# EAGLE library part CONN-RJ45-MOLEX-44144-003 (library SM1000)
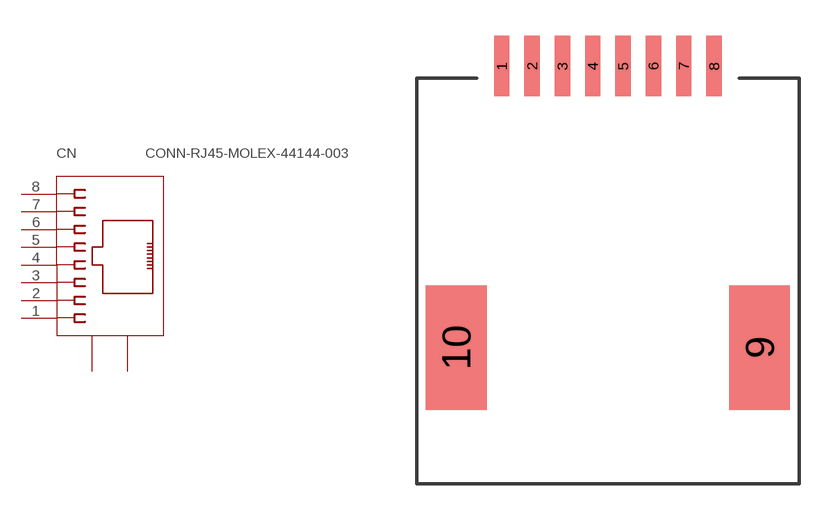
[diagram p1: symbol with the pads of CONN-RJ45-MOLEX-44144-003; footprint CONN-RJ45-MOLEX-44144-003]

Designator prefix CN

## CONN-RJ45-MOLEX-44144-003  [CONN-RJ45-MOLEX-44144-003]
1  1
2  2
3  3
4  4
5  5
6  6
7  7
8  8
9  9
10  10

## Footprint CONN-RJ45-MOLEX-44144-003 (pad centres in mm)
smd 0.64 x 2.54: 1 -4.445,7.5; 2 -3.175,7.5; 3 -1.905,7.5; 4 -0.635,7.5; 5 0.635,7.5; 6 1.905,7.5; 7 3.175,7.5; 8 4.445,7.5
smd 2.54 x 5.21: 9 6.35,-4.29; 10 -6.35,-4.29